# EAGLE library part TLP281-4 (library mylib)
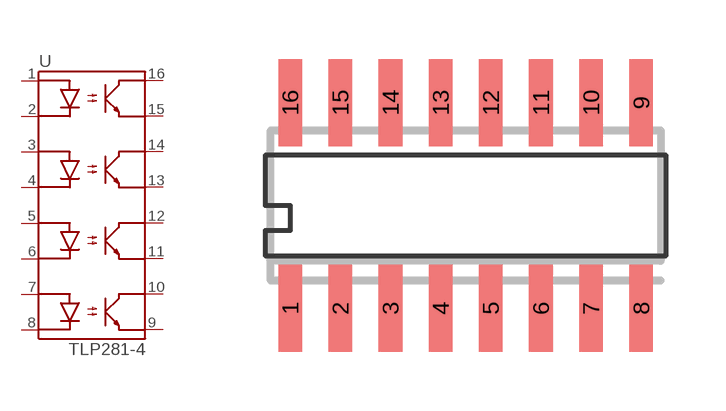
[diagram p14: symbol with the pads of SO16; footprint SO16]

Designator prefix -

## TLP281-4  [SO16]
1  ANODE1
2  CATHODE1
3  ANODE2
4  CATHODE2
5  ANODE3
6  CATHODE3
7  ANODE4
8  CATHODE4
9  E4
10  C4
11  E3
12  C3
13  E2
14  C2
15  E1
16  C1

## Footprint SO16 (pad centres in mm)
smd 0.6 x 2.2: 1 -4.445,-2.6; 2 -3.175,-2.6; 3 -1.905,-2.6; 4 -0.635,-2.6; 5 0.635,-2.6; 6 1.905,-2.6; 7 3.175,-2.6; 8 4.445,-2.6; 9 4.445,2.6; 10 3.175,2.6; 11 1.905,2.6; 12 0.635,2.6; 13 -0.635,2.6; 14 -1.905,2.6; 15 -3.175,2.6; 16 -4.445,2.6